# Altium footprint library MF-IC_DIGITAL.PcbLib: 1 footprints
Each footprint in its own frame and in the unit in brackets; x right, y up, seen from the top. Pads: shape width x height; smd on the part's side, far side on the other; paste and mask are expansions set on the pad; w line width, h text height; cw(c..) or ccw(c..) is an arc to the next point about the centre after c.
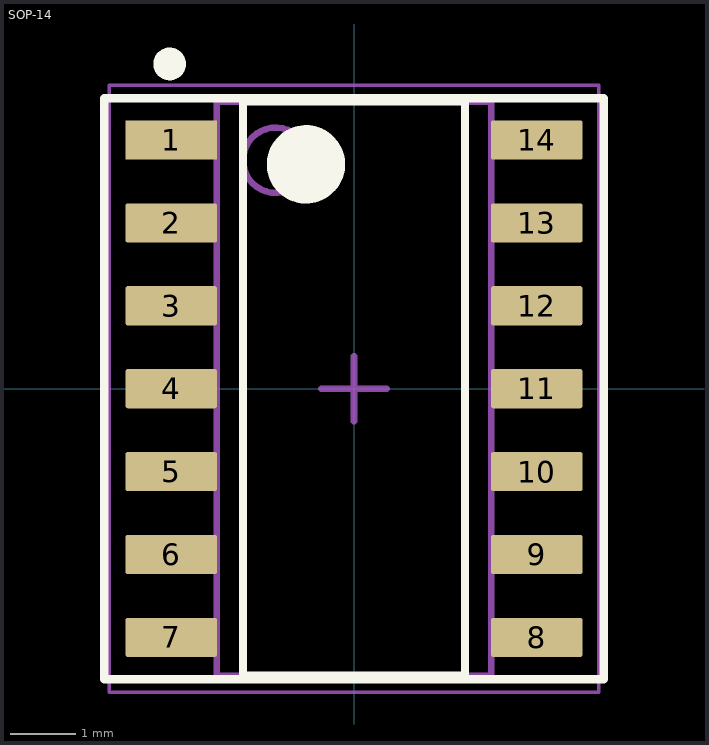
[diagram p0: the footprint, top view; thin cyan lines are the x and y axes]

## SOP-14 [mm] "SOIC, 14-Leads, Body 8.56x3.95mm, Pitch 1.27mm, IPC Medium Density"
height 1.65
pads (14):
  rect 1.4x0.6 smd: 1(-2.8,3.81)
  rrect10% 1.4x0.6 smd: 2(-2.8,2.54) 3(-2.8,1.27) 4(-2.8,0) 5(-2.8,-1.27) 6(-2.8,-2.54) 7(-2.8,-3.81) 8(2.8,-3.81) 9(2.8,-2.54) 10(2.8,-1.27) 11(2.8,0) 12(2.8,1.27) 13(2.8,2.54) 14(2.8,3.81)
Top Overlay:
  circle w0.6: c-0.736,3.437 r0.3
  circle w0.25: c-2.825,4.975 r0.125
  lines w0.127: -3.825,-4.45 3.825,-4.45 3.825,4.45 -3.825,4.45 -3.825,-4.45 ; -1.7,-4.4 1.7,-4.4 1.7,4.4 -1.7,4.4 -1.7,-4.4
Top Assembly:
  circle w0.1: c-1.2,3.5 r0.5
  lines w0.1: -2.1,-4.4 2.1,-4.4 2.1,4.4 -2.1,4.4 -2.1,-4.4
Top Courtyard:
  lines w0.05: -3.75,-4.65 3.75,-4.65 3.75,4.65 -3.75,4.65 -3.75,-4.65
  lines w0.1: -0.5,0 0.5,0 ; 0,-0.5 0,0.5
3D body "SOP-14.step": height 1.65, standoff 0, extent -3,-4.4 3,4.4